# Altium footprint library Wurth.PcbLib: 23 footprints (part 1 of 2)
Each footprint in its own frame and in the unit in brackets; x right, y up, seen from the top. Pads: shape width x height; smd on the part's side, far side on the other; paste and mask are expansions set on the pad; w line width, h text height; cw(c..) or ccw(c..) is an arc to the next point about the centre after c.
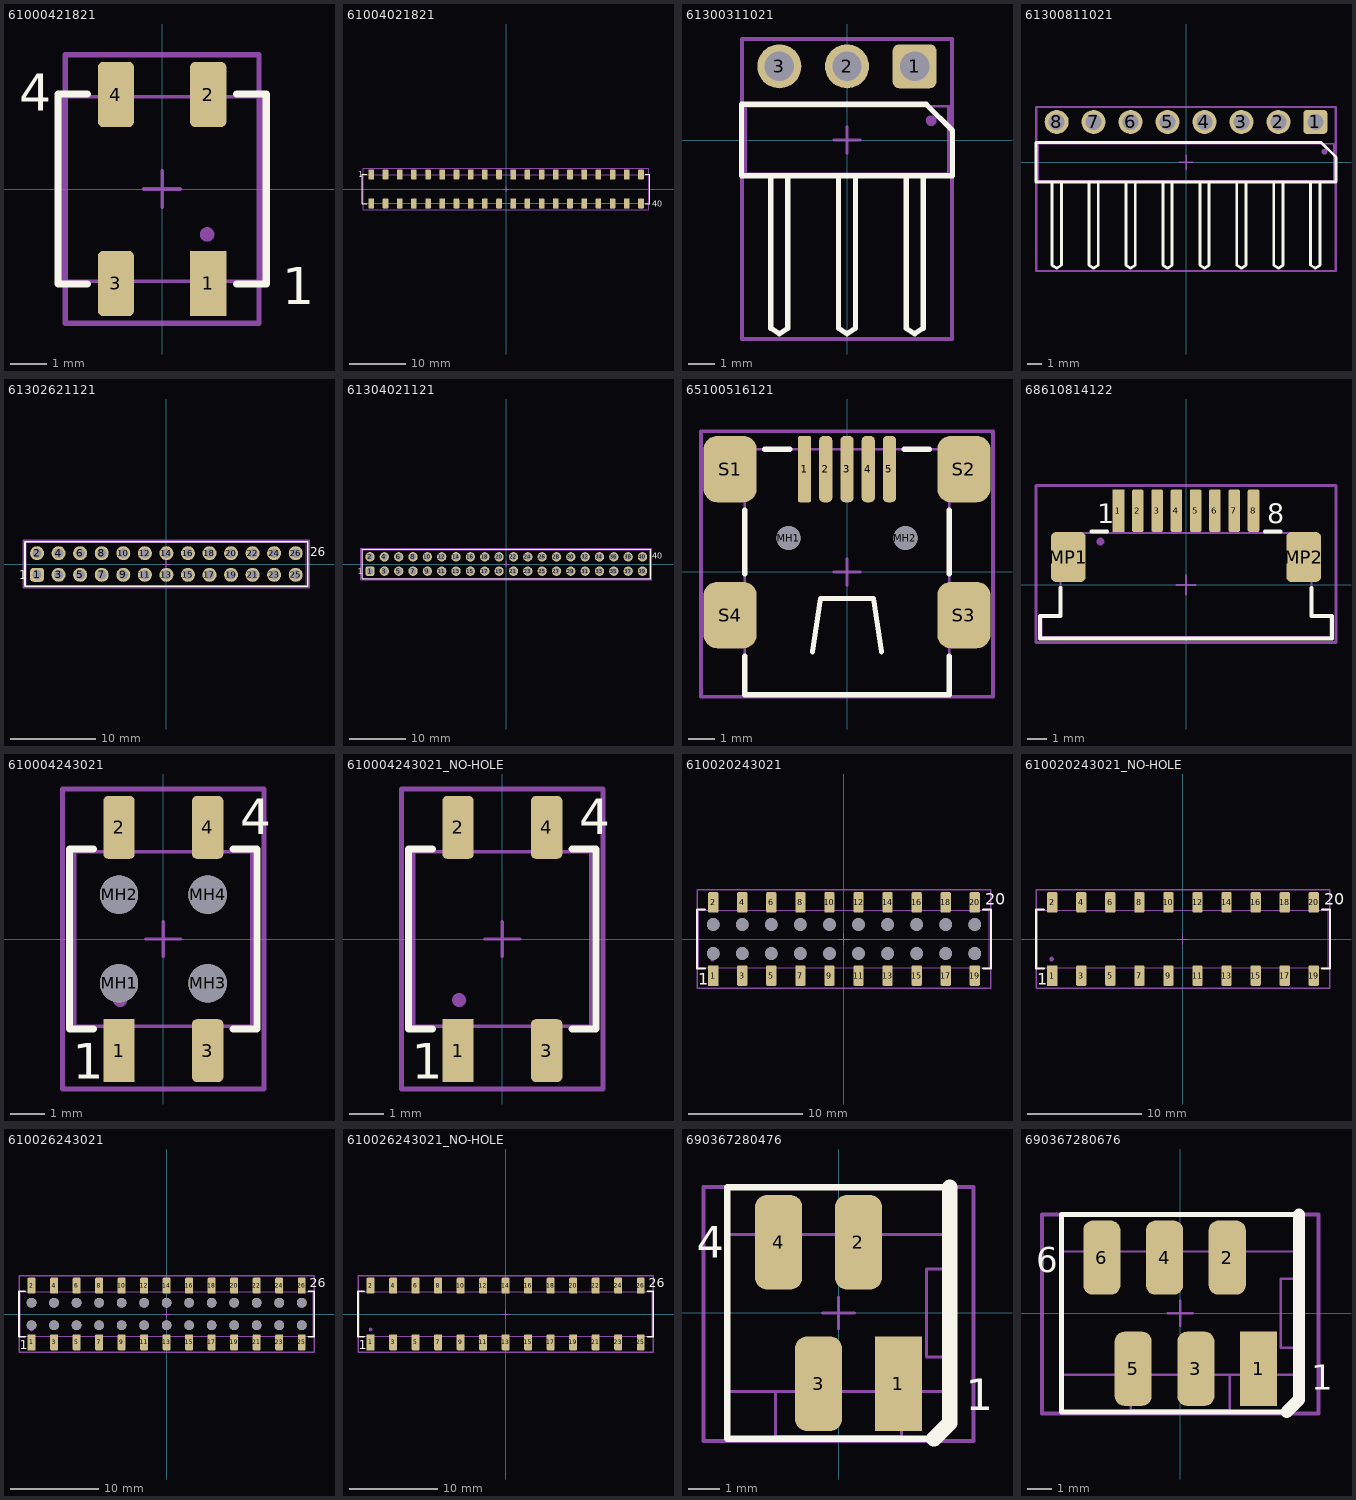
[diagram p0: the footprints below, top view; thin cyan lines are the x and y axes]

## 61000421821 [mm] "Socket Header, Pitch 2.54 mm, SMT, Vertical, dual row, 4p"
height 7.45
pads (4):
  rect 1x1.8 smd: 1(1.27,-2.6)
  rrect30% 1x1.8 smd: 2(1.27,2.6) 3(-1.27,-2.6) 4(-1.27,2.6)
Top Overlay:
  lines w0.2: -2.05,-2.615 -2.865,-2.615 -2.865,2.615 -2.05,2.615 ; 2.05,-2.615 2.865,-2.615 2.865,2.615 2.05,2.615
  text "4" at -3.937,2.159 h1.02
  text "1" at 3.302,-3.175 h1.02
Mechanical 13:
  circle w0.2: c1.238,-1.25 r0.1
  lines w0.1: -1.59,-2.54 -1.59,-3.35 -0.95,-3.35 -0.95,-2.54 ; -1.59,2.54 -1.59,3.35 -0.95,3.35 -0.95,2.54 ; 0.95,-2.54 0.95,-3.35 1.59,-3.35 1.59,-2.54 ; 0.95,2.54 0.95,3.35 1.59,3.35 1.59,2.54 ; -2.79,-2.54 -2.79,2.54 2.79,2.54 2.79,-2.54 -2.79,-2.54
Mechanical 15:
  lines w0.1: -0.5,0 0.5,0 ; 0,-0.5 0,0.5
  lines w0.15: -2.667,-3.7 -2.667,3.7 2.667,3.7 2.667,-3.7 -2.667,-3.7
Mechanical 17 (Mech17):
  text ".Designator" at -0.4,-0.2 h1.5
3D body "61000421821.stp": height 8.5, standoff 0, extent -2.54,-3.35 2.54,3.35

## 61004021821 [mm] "Socket Header, Pitch 2.54 mm, SMT, Vertical, dual row, 40p"
height 7.45
pads (40):
  rect 1x1.8 smd: 1(-24.13,2.6)
  rrect30% 1x1.8 smd: 2(-24.13,-2.6) 3(-21.59,2.6) 4(-21.59,-2.6) 5(-19.05,2.6) 6(-19.05,-2.6) 7(-16.51,2.6) 8(-16.51,-2.6) 9(-13.97,2.6) 10(-13.97,-2.6) 11(-11.43,2.6) 12(-11.43,-2.6) 13(-8.89,2.6) 14(-8.89,-2.6) 15(-6.35,2.6) 16(-6.35,-2.6) 17(-3.81,2.6) 18(-3.81,-2.6) 19(-1.27,2.6) 20(-1.27,-2.6) 21(1.27,2.6) 22(1.27,-2.6) 23(3.81,2.6) 24(3.81,-2.6) 25(6.35,2.6) 26(6.35,-2.6) 27(8.89,2.6) 28(8.89,-2.6) 29(11.43,2.6) 30(11.43,-2.6) 31(13.97,2.6) 32(13.97,-2.6) 33(16.51,2.6) 34(16.51,-2.6) 35(19.05,2.6) 36(19.05,-2.6) 37(21.59,2.6) 38(21.59,-2.6) 39(24.13,2.6) 40(24.13,-2.6)
Top Overlay:
  lines w0.2: -24.91,-2.615 -25.725,-2.615 -25.725,2.615 -24.91,2.615 ; 24.91,-2.615 25.725,-2.615 25.725,2.615 24.91,2.615
  text "1" at -26.51,2.1 h1.02
  text "40" at 26.16,-3.15 h1.02
Mechanical 13:
  circle w0.2: c-24.238,2 r0.1
  lines w0.1: -24.45,-2.54 -24.45,-3.35 -23.81,-3.35 -23.81,-2.54 ; -24.45,2.54 -24.45,3.35 -23.81,3.35 -23.81,2.54 ; -21.91,-2.54 -21.91,-3.35 -21.27,-3.35 -21.27,-2.54 ; -21.91,2.54 -21.91,3.35 -21.27,3.35 -21.27,2.54 ; -19.37,-2.54 -19.37,-3.35 -18.73,-3.35 -18.73,-2.54 ; -19.37,2.54 -19.37,3.35 -18.73,3.35 -18.73,2.54 ; -16.83,-2.54 -16.83,-3.35 -16.19,-3.35 -16.19,-2.54 ; -16.83,2.54 -16.83,3.35 -16.19,3.35 -16.19,2.54 ; -14.29,-2.54 -14.29,-3.35 -13.65,-3.35 -13.65,-2.54 ; -14.29,2.54 -14.29,3.35 -13.65,3.35 -13.65,2.54 ; -11.75,-2.54 -11.75,-3.35 -11.11,-3.35 -11.11,-2.54 ; -11.75,2.54 -11.75,3.35 -11.11,3.35 -11.11,2.54 ; -9.21,-2.54 -9.21,-3.35 -8.57,-3.35 -8.57,-2.54 ; -9.21,2.54 -9.21,3.35 -8.57,3.35 -8.57,2.54 ; -6.67,-2.54 -6.67,-3.35 -6.03,-3.35 -6.03,-2.54 ; -6.67,2.54 -6.67,3.35 -6.03,3.35 -6.03,2.54 ; -4.13,-2.54 -4.13,-3.35 -3.49,-3.35 -3.49,-2.54 ; -4.13,2.54 -4.13,3.35 -3.49,3.35 -3.49,2.54 ; -1.59,-2.54 -1.59,-3.35 -0.95,-3.35 -0.95,-2.54 ; -1.59,2.54 -1.59,3.35 -0.95,3.35 -0.95,2.54 ; 0.95,-2.54 0.95,-3.35 1.59,-3.35 1.59,-2.54 ; 0.95,2.54 0.95,3.35 1.59,3.35 1.59,2.54 ; 3.49,-2.54 3.49,-3.35 4.13,-3.35 4.13,-2.54 ; 3.49,2.54 3.49,3.35 4.13,3.35 4.13,2.54 ; 6.03,-2.54 6.03,-3.35 6.67,-3.35 6.67,-2.54 ; 6.03,2.54 6.03,3.35 6.67,3.35 6.67,2.54 ; 8.57,-2.54 8.57,-3.35 9.21,-3.35 9.21,-2.54 ; 8.57,2.54 8.57,3.35 9.21,3.35 9.21,2.54 ; 11.11,-2.54 11.11,-3.35 11.75,-3.35 11.75,-2.54 ; 11.11,2.54 11.11,3.35 11.75,3.35 11.75,2.54 ; 13.65,-2.54 13.65,-3.35 14.29,-3.35 14.29,-2.54 ; 13.65,2.54 13.65,3.35 14.29,3.35 14.29,2.54 ; 16.19,-2.54 16.19,-3.35 16.83,-3.35 16.83,-2.54 ; 16.19,2.54 16.19,3.35 16.83,3.35 16.83,2.54 ; 18.73,-2.54 18.73,-3.35 19.37,-3.35 19.37,-2.54 ; 18.73,2.54 18.73,3.35 19.37,3.35 19.37,2.54 ; 21.27,-2.54 21.27,-3.35 21.91,-3.35 21.91,-2.54 ; 21.27,2.54 21.27,3.35 21.91,3.35 21.91,2.54 ; 23.81,-2.54 23.81,-3.35 24.45,-3.35 24.45,-2.54 ; 23.81,2.54 23.81,3.35 24.45,3.35 24.45,2.54 ; -25.65,-2.54 25.65,-2.54 25.65,2.54 -25.65,2.54 -25.65,-2.54
Mechanical 15:
  lines w0.1: -0.5,0 0.5,0 ; 0,-0.5 0,0.5
  lines w0.15: -25.527,-3.7 25.527,-3.7 25.527,3.7 -25.527,3.7 -25.527,-3.7
Mechanical 17 (Mech17):
  text ".Designator" at -0.4,-0.2 h1.5
3D body "61004021821.stp": height 7.5, standoff 0, extent -25.4,-3.35 25.4,3.35

## 61300311021 [mm] "Pin Header, pitch 2.54 mm, THT, Angled, single row, 3p"
height 2.54
pads (3):
  rrect30% 1.65x1.65 hole 1.1: 1(2.54,2.77)
  round 1.65 hole 1.1: 2(0,2.77) 3(-2.54,2.77)
Top Overlay:
  lines w0.2: -2.86,-1.345 -2.86,-7.07 -2.54,-7.27 -2.22,-7.07 -2.22,-1.345 ; -0.32,-1.345 -0.32,-7.07 0,-7.27 0.32,-7.07 0.32,-1.345 ; 2.22,-1.345 2.22,-7.07 2.54,-7.27 2.86,-7.07 2.86,-1.345 ; -3.96,-1.345 -3.96,1.345 2.973,1.345 3.96,0.358 3.96,-1.345 -3.96,-1.345
Mechanical 13:
  circle w0.2: c3.163,0.727 r0.1
  lines w0.1: -2.86,-1.27 -2.86,-7.07 -2.54,-7.27 -2.22,-7.07 -2.22,-1.27 ; -0.32,-1.27 -0.32,-7.07 0,-7.27 0.32,-7.07 0.32,-1.27 ; 2.22,-1.27 2.22,-7.07 2.54,-7.27 2.86,-7.07 2.86,-1.27 ; -3.81,-1.27 -3.81,1.27 3.81,1.27 3.81,-1.27 -3.81,-1.27
Mechanical 15:
  lines w0.1: -0.5,0 0.5,0 ; 0,-0.5 0,0.5
  lines w0.15: -3.937,-7.47 -3.937,3.795 3.937,3.795 3.937,-7.47 -3.937,-7.47
Mechanical 17 (Mech17):
  text ".Designator" at -0.4,-0.2 h1.5
3D body "61300311021.stp": height 2.58, standoff -2.96, extent -3.81,-7.27 3.81,3.09

## 61300811021 [mm] "Pin Header, pitch 2.54 mm, THT, Angled, single row, 8p"
height 2.54
pads (8):
  rrect30% 1.65x1.65 hole 1.1: 1(8.89,2.77)
  round 1.65 hole 1.1: 2(6.35,2.77) 3(3.81,2.77) 4(1.27,2.77) 5(-1.27,2.77) 6(-3.81,2.77) 7(-6.35,2.77) 8(-8.89,2.77)
Top Overlay:
  lines w0.2: -9.21,-1.345 -9.21,-7.07 -8.89,-7.27 -8.57,-7.07 -8.57,-1.345 ; -6.67,-1.345 -6.67,-7.07 -6.35,-7.27 -6.03,-7.07 -6.03,-1.345 ; -4.13,-1.345 -4.13,-7.07 -3.81,-7.27 -3.49,-7.07 -3.49,-1.345 ; -1.59,-1.345 -1.59,-7.07 -1.27,-7.27 -0.95,-7.07 -0.95,-1.345 ; 0.95,-1.345 0.95,-7.07 1.27,-7.27 1.59,-7.07 1.59,-1.345 ; 3.49,-1.345 3.49,-7.07 3.81,-7.27 4.13,-7.07 4.13,-1.345 ; 6.03,-1.345 6.03,-7.07 6.35,-7.27 6.67,-7.07 6.67,-1.345 ; 8.57,-1.345 8.57,-7.07 8.89,-7.27 9.21,-7.07 9.21,-1.345 ; -10.31,-1.345 10.31,-1.345 10.31,0.358 9.323,1.345 -10.31,1.345 -10.31,-1.345
Mechanical 13:
  circle w0.2: c9.513,0.727 r0.1
  lines w0.1: -9.21,-1.27 -9.21,-7.07 -8.89,-7.27 -8.57,-7.07 -8.57,-1.27 ; -6.67,-1.27 -6.67,-7.07 -6.35,-7.27 -6.03,-7.07 -6.03,-1.27 ; -4.13,-1.27 -4.13,-7.07 -3.81,-7.27 -3.49,-7.07 -3.49,-1.27 ; -1.59,-1.27 -1.59,-7.07 -1.27,-7.27 -0.95,-7.07 -0.95,-1.27 ; 0.95,-1.27 0.95,-7.07 1.27,-7.27 1.59,-7.07 1.59,-1.27 ; 3.49,-1.27 3.49,-7.07 3.81,-7.27 4.13,-7.07 4.13,-1.27 ; 6.03,-1.27 6.03,-7.07 6.35,-7.27 6.67,-7.07 6.67,-1.27 ; 8.57,-1.27 8.57,-7.07 8.89,-7.27 9.21,-7.07 9.21,-1.27 ; -10.16,-1.27 10.16,-1.27 10.16,1.27 -10.16,1.27 -10.16,-1.27
Mechanical 15:
  lines w0.1: -0.5,0 0.5,0 ; 0,-0.5 0,0.5
  lines w0.15: -10.287,-7.47 10.287,-7.47 10.287,3.795 -10.287,3.795 -10.287,-7.47
Mechanical 17 (Mech17):
  text ".Designator" at -0.4,-0.2 h1.5
3D body "61300811021.stp": height 2.58, standoff -2.96, extent -10.16,-7.27 10.16,3.09

## 61302621121 [mm] "Pin Header, pitch 2.54 mm, THT, Vertical, dual row, 26p"
height 8.54
pads (26):
  rrect50% 1.65x1.65 hole 1.1: 1(-15.24,-1.27)
  round 1.65 hole 1.1: 2(-15.24,1.27) 3(-12.7,-1.27) 4(-12.7,1.27) 5(-10.16,-1.27) 6(-10.16,1.27) 7(-7.62,-1.27) 8(-7.62,1.27) 9(-5.08,-1.27) 10(-5.08,1.27) 11(-2.54,-1.27) 12(-2.54,1.27) 13(0,-1.27) 14(0,1.27) 15(2.54,-1.27) 16(2.54,1.27) 17(5.08,-1.27) 18(5.08,1.27) 19(7.62,-1.27) 20(7.62,1.27) 21(10.16,-1.27) 22(10.16,1.27) 23(12.7,-1.27) 24(12.7,1.27) 25(15.24,-1.27) 26(15.24,1.27)
Top Overlay:
  lines w0.2: -16.66,-2.615 16.66,-2.615 16.66,2.615 -16.66,2.615 -16.66,-2.615
  text "1" at -17.37,-1.8 h1.02
  text "26" at 16.97,0.9 h1.02
Mechanical 13:
  circle w0.2: c-15.238,-1.25 r0.1
  lines w0.1: -16.51,-2.54 16.51,-2.54 16.51,2.54 -16.51,2.54 -16.51,-2.54
Mechanical 15:
  lines w0.1: -0.5,0 0.5,0 ; 0,-0.5 0,0.5
  lines w0.15: -16.86,-2.815 -16.86,2.815 16.86,2.815 16.86,-2.815 -16.86,-2.815
Mechanical 17 (Mech17):
  text ".Designator" at -0.4,-0.2 h1.5
3D body "61302621121.stp": height 8.59, standoff -2.95, extent -16.51,-2.54 16.51,2.54

## 61304021121 [mm] "Pin Header, pitch 2.54 mm, THT, Vertical, dual row, 40p"
height 8.54
pads (40):
  rrect50% 1.65x1.65 hole 1.1: 1(-24.13,-1.27)
  round 1.65 hole 1.1: 2(-24.13,1.27) 3(-21.59,-1.27) 4(-21.59,1.27) 5(-19.05,-1.27) 6(-19.05,1.27) 7(-16.51,-1.27) 8(-16.51,1.27) 9(-13.97,-1.27) 10(-13.97,1.27) 11(-11.43,-1.27) 12(-11.43,1.27) 13(-8.89,-1.27) 14(-8.89,1.27) 15(-6.35,-1.27) 16(-6.35,1.27) 17(-3.81,-1.27) 18(-3.81,1.27) 19(-1.27,-1.27) 20(-1.27,1.27) 21(1.27,-1.27) 22(1.27,1.27) 23(3.81,-1.27) 24(3.81,1.27) 25(6.35,-1.27) 26(6.35,1.27) 27(8.89,-1.27) 28(8.89,1.27) 29(11.43,-1.27) 30(11.43,1.27) 31(13.97,-1.27) 32(13.97,1.27) 33(16.51,-1.27) 34(16.51,1.27) 35(19.05,-1.27) 36(19.05,1.27) 37(21.59,-1.27) 38(21.59,1.27) 39(24.13,-1.27) 40(24.13,1.27)
Top Overlay:
  lines w0.2: -25.55,-2.615 25.55,-2.615 25.55,2.615 -25.55,2.615 -25.55,-2.615
  text "1" at -26.26,-1.8 h1.02
  text "40" at 25.86,0.9 h1.02
Mechanical 13:
  circle w0.2: c-24.238,-1.25 r0.1
  lines w0.1: -25.4,-2.54 25.4,-2.54 25.4,2.54 -25.4,2.54 -25.4,-2.54
Mechanical 15:
  lines w0.1: -0.5,0 0.5,0 ; 0,-0.5 0,0.5
  lines w0.15: -25.75,-2.815 -25.75,2.815 25.75,2.815 25.75,-2.815 -25.75,-2.815
Mechanical 17 (Mech17):
  text ".Designator" at -0.4,-0.2 h1.5
3D body "61304021121.stp": height 8.59, standoff -2.95, extent -25.4,-2.54 25.4,2.54

## 65100516121 [mm] "Mini USB 2.0 Type B SMT Horizontal 5 Contacts"
height 3.9
pads (11):
  rrect30% 0.5x2.5 smd: 1(-1.6,3.875)
  rrect70% 0.5x2.5 smd: 2(-0.8,3.875) 3(0,3.875) 4(0.8,3.875) 5(1.6,3.875)
  round 0.9 hole 0.9 unplated: MH1(-2.2,1.275) MH2(2.2,1.275)
  rrect50% 2x2.5 smd: S1(-4.4,3.875) S2(4.4,3.875) S3(4.4,-1.625) S4(-4.4,-1.625)
Top Overlay:
  lines w0.2: -3.85,-3.175 -3.85,-4.625 3.85,-4.625 3.85,-3.175 ; -3.85,-0.075 -3.85,2.325 ; -3.1,4.625 -2.15,4.625 ; -1.3,-3 -1,-1 1,-1 1.3,-3 ; 2.15,4.625 3.1,4.625 ; 3.85,-0.075 3.85,2.325
Mechanical 13:
  lines w0.1: -1.3,-3 -1,-1 1,-1 1.3,-3 ; -3.85,-4.625 3.85,-4.625 3.85,4.625 -3.85,4.625 -3.85,-4.625
Mechanical 15:
  lines w0.1: -0.5,0 0.5,0 ; 0,-0.5 0,0.5
  lines w0.15: -5.5,-4.7 5.5,-4.7 5.5,5.3 -5.5,5.3 -5.5,-4.7
Mechanical 17 (Mech17):
  text ".Designator" at -0.4,-0.2 h1.5
3D body "65100516121.stp": height 3.92, standoff -0.98, extent -4.8,-4.625 4.8,4.625

## 68610814122 [mm] "ZIF Connectors, Horizontal, Top Contact, pitch 1mm, 8p"
height 3.15
pads (10):
  rect 0.6x2.2 smd: 1(-3.5,3.85)
  rrect30% 0.6x2.2 smd: 2(-2.5,3.85) 3(-1.5,3.85) 4(-0.5,3.85) 5(0.5,3.85) 6(1.5,3.85) 7(2.5,3.85) 8(3.5,3.85)
  rrect30% 1.8x2.6 smd: MP1(-6.1,1.45) MP2(6.1,1.45)
Top Overlay:
  lines w0.2: -6.5,-0.15 -6.5,-1.6 -7.575,-1.6 -7.575,-2.775 7.575,-2.775 7.575,-1.6 6.5,-1.6 6.5,-0.15 ; -4.9,2.775 -4.1,2.775 ; 4.1,2.775 4.9,2.775
  text "8" at 4.2,3.2 h1.02
  text "1" at -4.6,3.2 h1.02
Mechanical 13:
  circle w0.2: c-4.433,2.25 r0.1
  lines w0.1: -7.5,-2.7 -7.5,-1.6 -6.5,-1.6 -6.5,2.7 6.5,2.7 6.5,-1.6 7.5,-1.6 7.5,-2.7 -7.5,-2.7
Mechanical 15:
  lines w0.1: -0.5,0 0.5,0 ; 0,-0.5 0,0.5
  lines w0.15: -7.775,-2.975 7.775,-2.975 7.775,5.15 -7.775,5.15 -7.775,-2.975
Mechanical 17 (Mech17):
  text ".Designator" at -0.4,-0.2 h1.5
3D body "68610814122.stp": height 3.02, standoff 0.02, extent -7.5,-2.7 7.5,4.4

## 610004243021 [mm] "Socket Header, Pitch 2.54 mm, SMT, Vertical, dual row, 4p"
height 3.7
pads (8):
  rect 0.9x1.8 smd: 1(-1.27,-3.2)
  rrect30% 0.9x1.8 smd: 2(-1.27,3.2) 3(1.27,-3.2) 4(1.27,3.2)
  round 1.1 hole 1.1 unplated: MH1(-1.27,-1.27) MH2(-1.27,1.27) MH3(1.27,-1.27) MH4(1.27,1.27)
Top Overlay:
  lines w0.2: -2,-2.575 -2.69,-2.575 -2.69,2.575 -2,2.575 ; 2,-2.575 2.69,-2.575 2.69,2.575 2,2.575
  text "4" at 2.2,3 h1.02
  text "1" at -2.6,-4 h1.02
Mechanical 13:
  circle w0.2: c-1.238,-1.75 r0.1
  lines w0.1: -1.52,-2.5 -1.52,-3.6 -1.02,-3.6 -1.02,-2.5 ; -1.52,2.5 -1.52,3.6 -1.02,3.6 -1.02,2.5 ; 1.02,-2.5 1.02,-3.6 1.52,-3.6 1.52,-2.5 ; 1.02,2.5 1.02,3.6 1.52,3.6 1.52,2.5 ; -2.54,-2.5 -2.54,2.5 2.54,2.5 2.54,-2.5 -2.54,-2.5
Mechanical 15:
  lines w0.1: -0.5,0 0.5,0 ; 0,-0.5 0,0.5
  lines w0.15: -2.89,-4.3 -2.89,4.3 2.89,4.3 2.89,-4.3 -2.89,-4.3
Mechanical 17 (Mech17):
  text ".Designator" at -0.4,-0.2 h1.5
3D body "610004243021.stp": height 3.7, standoff 0, extent -2.54,-3.603 2.54,3.603

## 610004243021_NO-HOLE [mm] "Socket Header, Pitch 2.54 mm, SMT, Vertical, dual row, 4p"
height 3.7
pads (4):
  rect 0.9x1.8 smd: 1(-1.27,-3.2)
  rrect30% 0.9x1.8 smd: 2(-1.27,3.2) 3(1.27,-3.2) 4(1.27,3.2)
Top Overlay:
  lines w0.2: -2,-2.575 -2.69,-2.575 -2.69,2.575 -2,2.575 ; 2,-2.575 2.69,-2.575 2.69,2.575 2,2.575
  text "1" at -2.6,-4 h1.02
  text "4" at 2.2,3 h1.02
Mechanical 13:
  circle w0.2: c-1.238,-1.75 r0.1
  lines w0.1: -1.52,-2.5 -1.52,-3.6 -1.02,-3.6 -1.02,-2.5 ; -1.52,2.5 -1.52,3.6 -1.02,3.6 -1.02,2.5 ; 1.02,-2.5 1.02,-3.6 1.52,-3.6 1.52,-2.5 ; 1.02,2.5 1.02,3.6 1.52,3.6 1.52,2.5 ; -2.54,-2.5 2.54,-2.5 2.54,2.5 -2.54,2.5 -2.54,-2.5
Mechanical 15:
  lines w0.1: -0.5,0 0.5,0 ; 0,-0.5 0,0.5
  lines w0.15: -2.89,-4.3 2.89,-4.3 2.89,4.3 -2.89,4.3 -2.89,-4.3
Mechanical 17 (Mech17):
  text ".Designator" at -0.4,-0.2 h1.5
3D body "610004243021.stp": height 3.7, standoff 0, extent -2.54,-3.603 2.54,3.603

## 610020243021 [mm] "Socket Header, Pitch 2.54 mm, SMT, Vertical, dual row, 20p"
height 3.7
pads (40):
  rect 0.9x1.8 smd: 1(-11.43,-3.2)
  rrect30% 0.9x1.8 smd: 2(-11.43,3.2) 3(-8.89,-3.2) 4(-8.89,3.2) 5(-6.35,-3.2) 6(-6.35,3.2) 7(-3.81,-3.2) 8(-3.81,3.2) 9(-1.27,-3.2) 10(-1.27,3.2) 11(1.27,-3.2) 12(1.27,3.2) 13(3.81,-3.2) 14(3.81,3.2) 15(6.35,-3.2) 16(6.35,3.2) 17(8.89,-3.2) 18(8.89,3.2) 19(11.43,-3.2) 20(11.43,3.2)
  round 1.1 hole 1.1 unplated: MH1(-11.43,-1.27) MH2(-11.43,1.27) MH3(-8.89,-1.27) MH4(-8.89,1.27) MH5(-6.35,-1.27) MH6(-6.35,1.27) MH7(-3.81,-1.27) MH8(-3.81,1.27) MH9(-1.27,-1.27) MH10(-1.27,1.27) MH11(1.27,-1.27) MH12(1.27,1.27) MH13(3.81,-1.27) MH14(3.81,1.27) MH15(6.35,-1.27) MH16(6.35,1.27) MH17(8.89,-1.27) MH18(8.89,1.27) MH19(11.43,-1.27) MH20(11.43,1.27)
Top Overlay:
  lines w0.2: -12.16,-2.575 -12.85,-2.575 -12.85,2.575 -12.16,2.575 ; 12.16,-2.575 12.85,-2.575 12.85,2.575 12.16,2.575
  text "1" at -12.76,-4 h1.02
  text "20" at 12.36,3 h1.02
Mechanical 13:
  circle w0.2: c-11.488,-1.75 r0.1
  lines w0.1: -11.68,-2.5 -11.68,-3.6 -11.18,-3.6 -11.18,-2.5 ; -11.68,2.5 -11.68,3.6 -11.18,3.6 -11.18,2.5 ; -9.14,-2.5 -9.14,-3.6 -8.64,-3.6 -8.64,-2.5 ; -9.14,2.5 -9.14,3.6 -8.64,3.6 -8.64,2.5 ; -6.6,-2.5 -6.6,-3.6 -6.1,-3.6 -6.1,-2.5 ; -6.6,2.5 -6.6,3.6 -6.1,3.6 -6.1,2.5 ; -4.06,-2.5 -4.06,-3.6 -3.56,-3.6 -3.56,-2.5 ; -4.06,2.5 -4.06,3.6 -3.56,3.6 -3.56,2.5 ; -1.52,-2.5 -1.52,-3.6 -1.02,-3.6 -1.02,-2.5 ; -1.52,2.5 -1.52,3.6 -1.02,3.6 -1.02,2.5 ; 1.02,-2.5 1.02,-3.6 1.52,-3.6 1.52,-2.5 ; 1.02,2.5 1.02,3.6 1.52,3.6 1.52,2.5 ; 3.56,-2.5 3.56,-3.6 4.06,-3.6 4.06,-2.5 ; 3.56,2.5 3.56,3.6 4.06,3.6 4.06,2.5 ; 6.1,-2.5 6.1,-3.6 6.6,-3.6 6.6,-2.5 ; 6.1,2.5 6.1,3.6 6.6,3.6 6.6,2.5 ; 8.64,-2.5 8.64,-3.6 9.14,-3.6 9.14,-2.5 ; 8.64,2.5 8.64,3.6 9.14,3.6 9.14,2.5 ; 11.18,-2.5 11.18,-3.6 11.68,-3.6 11.68,-2.5 ; 11.18,2.5 11.18,3.6 11.68,3.6 11.68,2.5 ; -12.7,-2.5 12.7,-2.5 12.7,2.5 -12.7,2.5 -12.7,-2.5
Mechanical 15:
  lines w0.1: -0.5,0 0.5,0 ; 0,-0.5 0,0.5
  lines w0.15: -12.827,-4.3 12.827,-4.3 12.827,4.3 -12.827,4.3 -12.827,-4.3
Mechanical 17 (Mech17):
  text ".Designator" at -0.4,-0.2 h1.5
3D body "610020243021.stp": height 3.7, standoff 0, extent -12.7,-3.603 12.7,3.603

## 610020243021_NO-HOLE [mm] "Socket Header, Pitch 2.54 mm, SMT, Vertical, dual row, 20p"
height 3.7
pads (20):
  rect 0.9x1.8 smd: 1(-11.43,-3.2)
  rrect30% 0.9x1.8 smd: 2(-11.43,3.2) 3(-8.89,-3.2) 4(-8.89,3.2) 5(-6.35,-3.2) 6(-6.35,3.2) 7(-3.81,-3.2) 8(-3.81,3.2) 9(-1.27,-3.2) 10(-1.27,3.2) 11(1.27,-3.2) 12(1.27,3.2) 13(3.81,-3.2) 14(3.81,3.2) 15(6.35,-3.2) 16(6.35,3.2) 17(8.89,-3.2) 18(8.89,3.2) 19(11.43,-3.2) 20(11.43,3.2)
Top Overlay:
  lines w0.2: -12.16,-2.575 -12.85,-2.575 -12.85,2.575 -12.16,2.575 ; 12.16,-2.575 12.85,-2.575 12.85,2.575 12.16,2.575
  text "1" at -12.76,-4 h1.02
  text "20" at 12.36,3 h1.02
Mechanical 13:
  circle w0.2: c-11.488,-1.75 r0.1
  lines w0.1: -11.68,-2.5 -11.68,-3.6 -11.18,-3.6 -11.18,-2.5 ; -11.68,2.5 -11.68,3.6 -11.18,3.6 -11.18,2.5 ; -9.14,-2.5 -9.14,-3.6 -8.64,-3.6 -8.64,-2.5 ; -9.14,2.5 -9.14,3.6 -8.64,3.6 -8.64,2.5 ; -6.6,-2.5 -6.6,-3.6 -6.1,-3.6 -6.1,-2.5 ; -6.6,2.5 -6.6,3.6 -6.1,3.6 -6.1,2.5 ; -4.06,-2.5 -4.06,-3.6 -3.56,-3.6 -3.56,-2.5 ; -4.06,2.5 -4.06,3.6 -3.56,3.6 -3.56,2.5 ; -1.52,-2.5 -1.52,-3.6 -1.02,-3.6 -1.02,-2.5 ; -1.52,2.5 -1.52,3.6 -1.02,3.6 -1.02,2.5 ; 1.02,-2.5 1.02,-3.6 1.52,-3.6 1.52,-2.5 ; 1.02,2.5 1.02,3.6 1.52,3.6 1.52,2.5 ; 3.56,-2.5 3.56,-3.6 4.06,-3.6 4.06,-2.5 ; 3.56,2.5 3.56,3.6 4.06,3.6 4.06,2.5 ; 6.1,-2.5 6.1,-3.6 6.6,-3.6 6.6,-2.5 ; 6.1,2.5 6.1,3.6 6.6,3.6 6.6,2.5 ; 8.64,-2.5 8.64,-3.6 9.14,-3.6 9.14,-2.5 ; 8.64,2.5 8.64,3.6 9.14,3.6 9.14,2.5 ; 11.18,-2.5 11.18,-3.6 11.68,-3.6 11.68,-2.5 ; 11.18,2.5 11.18,3.6 11.68,3.6 11.68,2.5 ; -12.7,-2.5 12.7,-2.5 12.7,2.5 -12.7,2.5 -12.7,-2.5
Mechanical 15:
  lines w0.1: -0.5,0 0.5,0 ; 0,-0.5 0,0.5
  lines w0.15: -12.827,-4.3 12.827,-4.3 12.827,4.3 -12.827,4.3 -12.827,-4.3
Mechanical 17 (Mech17):
  text ".Designator" at -0.4,-0.2 h1.5
3D body "610020243021.stp": height 3.7, standoff 0, extent -12.7,-3.603 12.7,3.603

## 610026243021 [mm] "Socket Header, Pitch 2.54 mm, SMT, Vertical, dual row, 26p"
height 3.7
pads (52):
  rect 0.9x1.8 smd: 1(-15.24,-3.2)
  rrect30% 0.9x1.8 smd: 2(-15.24,3.2) 3(-12.7,-3.2) 4(-12.7,3.2) 5(-10.16,-3.2) 6(-10.16,3.2) 7(-7.62,-3.2) 8(-7.62,3.2) 9(-5.08,-3.2) 10(-5.08,3.2) 11(-2.54,-3.2) 12(-2.54,3.2) 13(0,-3.2) 14(0,3.2) 15(2.54,-3.2) 16(2.54,3.2) 17(5.08,-3.2) 18(5.08,3.2) 19(7.62,-3.2) 20(7.62,3.2) 21(10.16,-3.2) 22(10.16,3.2) 23(12.7,-3.2) 24(12.7,3.2) 25(15.24,-3.2) 26(15.24,3.2)
  round 1.1 hole 1.1 unplated: MH1(-15.24,-1.27) MH2(-15.24,1.27) MH3(-12.7,-1.27) MH4(-12.7,1.27) MH5(-10.16,-1.27) MH6(-10.16,1.27) MH7(-7.62,-1.27) MH8(-7.62,1.27) MH9(-5.08,-1.27) MH10(-5.08,1.27) MH11(-2.54,-1.27) MH12(-2.54,1.27) MH13(0,-1.27) MH14(0,1.27) MH15(2.54,-1.27) MH16(2.54,1.27) MH17(5.08,-1.27) MH18(5.08,1.27) MH19(7.62,-1.27) MH20(7.62,1.27) MH21(10.16,-1.27) MH22(10.16,1.27) MH23(12.7,-1.27) MH24(12.7,1.27) MH25(15.24,-1.27) MH26(15.24,1.27)
Top Overlay:
  lines w0.2: -15.97,-2.575 -16.66,-2.575 -16.66,2.575 -15.97,2.575 ; 15.97,-2.575 16.66,-2.575 16.66,2.575 15.97,2.575
  text "26" at 16.17,3 h1.02
  text "1" at -16.57,-4 h1.02
Mechanical 13:
  circle w0.2: c-15.238,-1.75 r0.1
  lines w0.1: -15.49,-2.5 -15.49,-3.6 -14.99,-3.6 -14.99,-2.5 ; -15.49,2.5 -15.49,3.6 -14.99,3.6 -14.99,2.5 ; -12.95,-2.5 -12.95,-3.6 -12.45,-3.6 -12.45,-2.5 ; -12.95,2.5 -12.95,3.6 -12.45,3.6 -12.45,2.5 ; -10.41,-2.5 -10.41,-3.6 -9.91,-3.6 -9.91,-2.5 ; -10.41,2.5 -10.41,3.6 -9.91,3.6 -9.91,2.5 ; -7.87,-2.5 -7.87,-3.6 -7.37,-3.6 -7.37,-2.5 ; -7.87,2.5 -7.87,3.6 -7.37,3.6 -7.37,2.5 ; -5.33,-2.5 -5.33,-3.6 -4.83,-3.6 -4.83,-2.5 ; -5.33,2.5 -5.33,3.6 -4.83,3.6 -4.83,2.5 ; -2.79,-2.5 -2.79,-3.6 -2.29,-3.6 -2.29,-2.5 ; -2.79,2.5 -2.79,3.6 -2.29,3.6 -2.29,2.5 ; -0.25,-2.5 -0.25,-3.6 0.25,-3.6 0.25,-2.5 ; -0.25,2.5 -0.25,3.6 0.25,3.6 0.25,2.5 ; 2.29,-2.5 2.29,-3.6 2.79,-3.6 2.79,-2.5 ; 2.29,2.5 2.29,3.6 2.79,3.6 2.79,2.5 ; 4.83,-2.5 4.83,-3.6 5.33,-3.6 5.33,-2.5 ; 4.83,2.5 4.83,3.6 5.33,3.6 5.33,2.5 ; 7.37,-2.5 7.37,-3.6 7.87,-3.6 7.87,-2.5 ; 7.37,2.5 7.37,3.6 7.87,3.6 7.87,2.5 ; 9.91,-2.5 9.91,-3.6 10.41,-3.6 10.41,-2.5 ; 9.91,2.5 9.91,3.6 10.41,3.6 10.41,2.5 ; 12.45,-2.5 12.45,-3.6 12.95,-3.6 12.95,-2.5 ; 12.45,2.5 12.45,3.6 12.95,3.6 12.95,2.5 ; 14.99,-2.5 14.99,-3.6 15.49,-3.6 15.49,-2.5 ; 14.99,2.5 14.99,3.6 15.49,3.6 15.49,2.5 ; -16.51,-2.5 16.51,-2.5 16.51,2.5 -16.51,2.5 -16.51,-2.5
Mechanical 15:
  lines w0.1: -0.5,0 0.5,0 ; 0,-0.5 0,0.5
  lines w0.15: -16.637,-4.3 16.637,-4.3 16.637,4.3 -16.637,4.3 -16.637,-4.3
Mechanical 17 (Mech17):
  text ".Designator" at -0.4,-0.2 h1.5
3D body "610026243021.stp": height 3.7, standoff 0, extent -16.51,-3.603 16.51,3.603

## 610026243021_NO-HOLE [mm] "Socket Header, Pitch 2.54 mm, SMT, Vertical, dual row, 26p"
height 3.7
pads (26):
  rect 0.9x1.8 smd: 1(-15.24,-3.2)
  rrect30% 0.9x1.8 smd: 2(-15.24,3.2) 3(-12.7,-3.2) 4(-12.7,3.2) 5(-10.16,-3.2) 6(-10.16,3.2) 7(-7.62,-3.2) 8(-7.62,3.2) 9(-5.08,-3.2) 10(-5.08,3.2) 11(-2.54,-3.2) 12(-2.54,3.2) 13(0,-3.2) 14(0,3.2) 15(2.54,-3.2) 16(2.54,3.2) 17(5.08,-3.2) 18(5.08,3.2) 19(7.62,-3.2) 20(7.62,3.2) 21(10.16,-3.2) 22(10.16,3.2) 23(12.7,-3.2) 24(12.7,3.2) 25(15.24,-3.2) 26(15.24,3.2)
Top Overlay:
  lines w0.2: -15.97,-2.575 -16.66,-2.575 -16.66,2.575 -15.97,2.575 ; 15.97,-2.575 16.66,-2.575 16.66,2.575 15.97,2.575
  text "1" at -16.57,-4 h1.02
  text "26" at 16.17,3 h1.02
Mechanical 13:
  circle w0.2: c-15.238,-1.75 r0.1
  lines w0.1: -15.49,-2.5 -15.49,-3.6 -14.99,-3.6 -14.99,-2.5 ; -15.49,2.5 -15.49,3.6 -14.99,3.6 -14.99,2.5 ; -12.95,-2.5 -12.95,-3.6 -12.45,-3.6 -12.45,-2.5 ; -12.95,2.5 -12.95,3.6 -12.45,3.6 -12.45,2.5 ; -10.41,-2.5 -10.41,-3.6 -9.91,-3.6 -9.91,-2.5 ; -10.41,2.5 -10.41,3.6 -9.91,3.6 -9.91,2.5 ; -7.87,-2.5 -7.87,-3.6 -7.37,-3.6 -7.37,-2.5 ; -7.87,2.5 -7.87,3.6 -7.37,3.6 -7.37,2.5 ; -5.33,-2.5 -5.33,-3.6 -4.83,-3.6 -4.83,-2.5 ; -5.33,2.5 -5.33,3.6 -4.83,3.6 -4.83,2.5 ; -2.79,-2.5 -2.79,-3.6 -2.29,-3.6 -2.29,-2.5 ; -2.79,2.5 -2.79,3.6 -2.29,3.6 -2.29,2.5 ; -0.25,-2.5 -0.25,-3.6 0.25,-3.6 0.25,-2.5 ; -0.25,2.5 -0.25,3.6 0.25,3.6 0.25,2.5 ; 2.29,-2.5 2.29,-3.6 2.79,-3.6 2.79,-2.5 ; 2.29,2.5 2.29,3.6 2.79,3.6 2.79,2.5 ; 4.83,-2.5 4.83,-3.6 5.33,-3.6 5.33,-2.5 ; 4.83,2.5 4.83,3.6 5.33,3.6 5.33,2.5 ; 7.37,-2.5 7.37,-3.6 7.87,-3.6 7.87,-2.5 ; 7.37,2.5 7.37,3.6 7.87,3.6 7.87,2.5 ; 9.91,-2.5 9.91,-3.6 10.41,-3.6 10.41,-2.5 ; 9.91,2.5 9.91,3.6 10.41,3.6 10.41,2.5 ; 12.45,-2.5 12.45,-3.6 12.95,-3.6 12.95,-2.5 ; 12.45,2.5 12.45,3.6 12.95,3.6 12.95,2.5 ; 14.99,-2.5 14.99,-3.6 15.49,-3.6 15.49,-2.5 ; 14.99,2.5 14.99,3.6 15.49,3.6 15.49,2.5 ; -16.51,-2.5 -16.51,2.5 16.51,2.5 16.51,-2.5 -16.51,-2.5
Mechanical 15:
  lines w0.1: -0.5,0 0.5,0 ; 0,-0.5 0,0.5
  lines w0.15: -16.637,-4.3 -16.637,4.3 16.637,4.3 16.637,-4.3 -16.637,-4.3
Mechanical 17 (Mech17):
  text ".Designator" at -0.4,-0.2 h1.5
3D body "610026243021.stp": height 3.7, standoff 0, extent -16.51,-3.603 16.51,3.603

## 690367280476 [mm] "4 pins, SMT, straight, without Latch"
height 5.75
pads (4):
  rect 1.5x3 smd: 1(1.905,-2.25)
  rrect50% 1.5x3 smd: 2(0.635,2.25) 3(-0.635,-2.25) 4(-1.905,2.25)
Top Overlay:
  lines w0.2: 3.04,-4 -3.54,-4 -3.54,4 3.54,4
  lines w0.5: 3.04,-4 3.54,-3.5 3.54,4
  text "1" at 4.04,-3.1 h1
  text "4" at -4.5,1.75 h1
Mechanical 13:
  lines w0.1: -2.47,-2.5 2.73,-2.5 ; -3.54,-2.5 -3.54,2.5 3.54,2.5 3.54,1.397 2.794,1.397 2.794,-1.397 3.54,-1.397 3.54,-2.5 2,-2.5 2,-3.937 -2,-3.937 -2,-2.5 -3.54,-2.5
Mechanical 15:
  lines w0.1: -0.5,0 0.5,0 ; 0,-0.5 0,0.5
  lines w0.127: -4.3,-4.064 -4.3,4 4.3,4 4.3,-4.064 -4.3,-4.064
Mechanical 17 (Mech17):
  text ".Designator" at -0.4,-0.2 h1.5
3D body "690367280476.stp": height 5.7, standoff -0.05, extent -3.54,-5 3.54,3.5

## 690367280676 [mm] "6 pins, SMT, straight, without Latch"
height 5.75
pads (6):
  rect 1.5x3 smd: 1(3.175,-2.25)
  rrect50% 1.5x3 smd: 2(1.905,2.25) 3(0.635,-2.25) 4(-0.635,2.25) 5(-1.905,-2.25) 6(-3.175,2.25)
Top Overlay:
  lines w0.2: 4.31,-4 -4.81,-4 -4.81,4 4.81,4
  lines w0.5: 4.31,-4 4.81,-3.5 4.81,4
  text "6" at -5.842,1.651 h1
  text "1" at 5.31,-3.1 h1
Mechanical 13:
  lines w0.1: -4.81,-2.5 -4.81,2.5 4.81,2.5 4.81,1.397 4.064,1.397 4.064,-1.397 4.81,-1.397 4.81,-2.5 -4.81,-2.5 ; -2,-3.937 2,-3.937 2,-2.502 -2,-2.502 -2,-3.937
Mechanical 15:
  lines w0.1: -0.5,0 0.5,0 ; 0,-0.5 0,0.5
  lines w0.15: -5.6,-4.064 5.6,-4.064 5.6,4 -5.6,4 -5.6,-4.064
Mechanical 17 (Mech17):
  text ".Designator" at -0.4,-0.2 h1.5
3D body "690367280676.stp": height 5.75, standoff 0, extent -4.81,-5 4.81,3.5